# Altium footprint library Connectors.PcbLib: 18 footprints (part 1 of 2)
Each footprint in its own frame and in the unit in brackets; x right, y up, seen from the top. Pads: shape width x height; smd on the part's side, far side on the other; paste and mask are expansions set on the pad; w line width, h text height; cw(c..) or ccw(c..) is an arc to the next point about the centre after c.
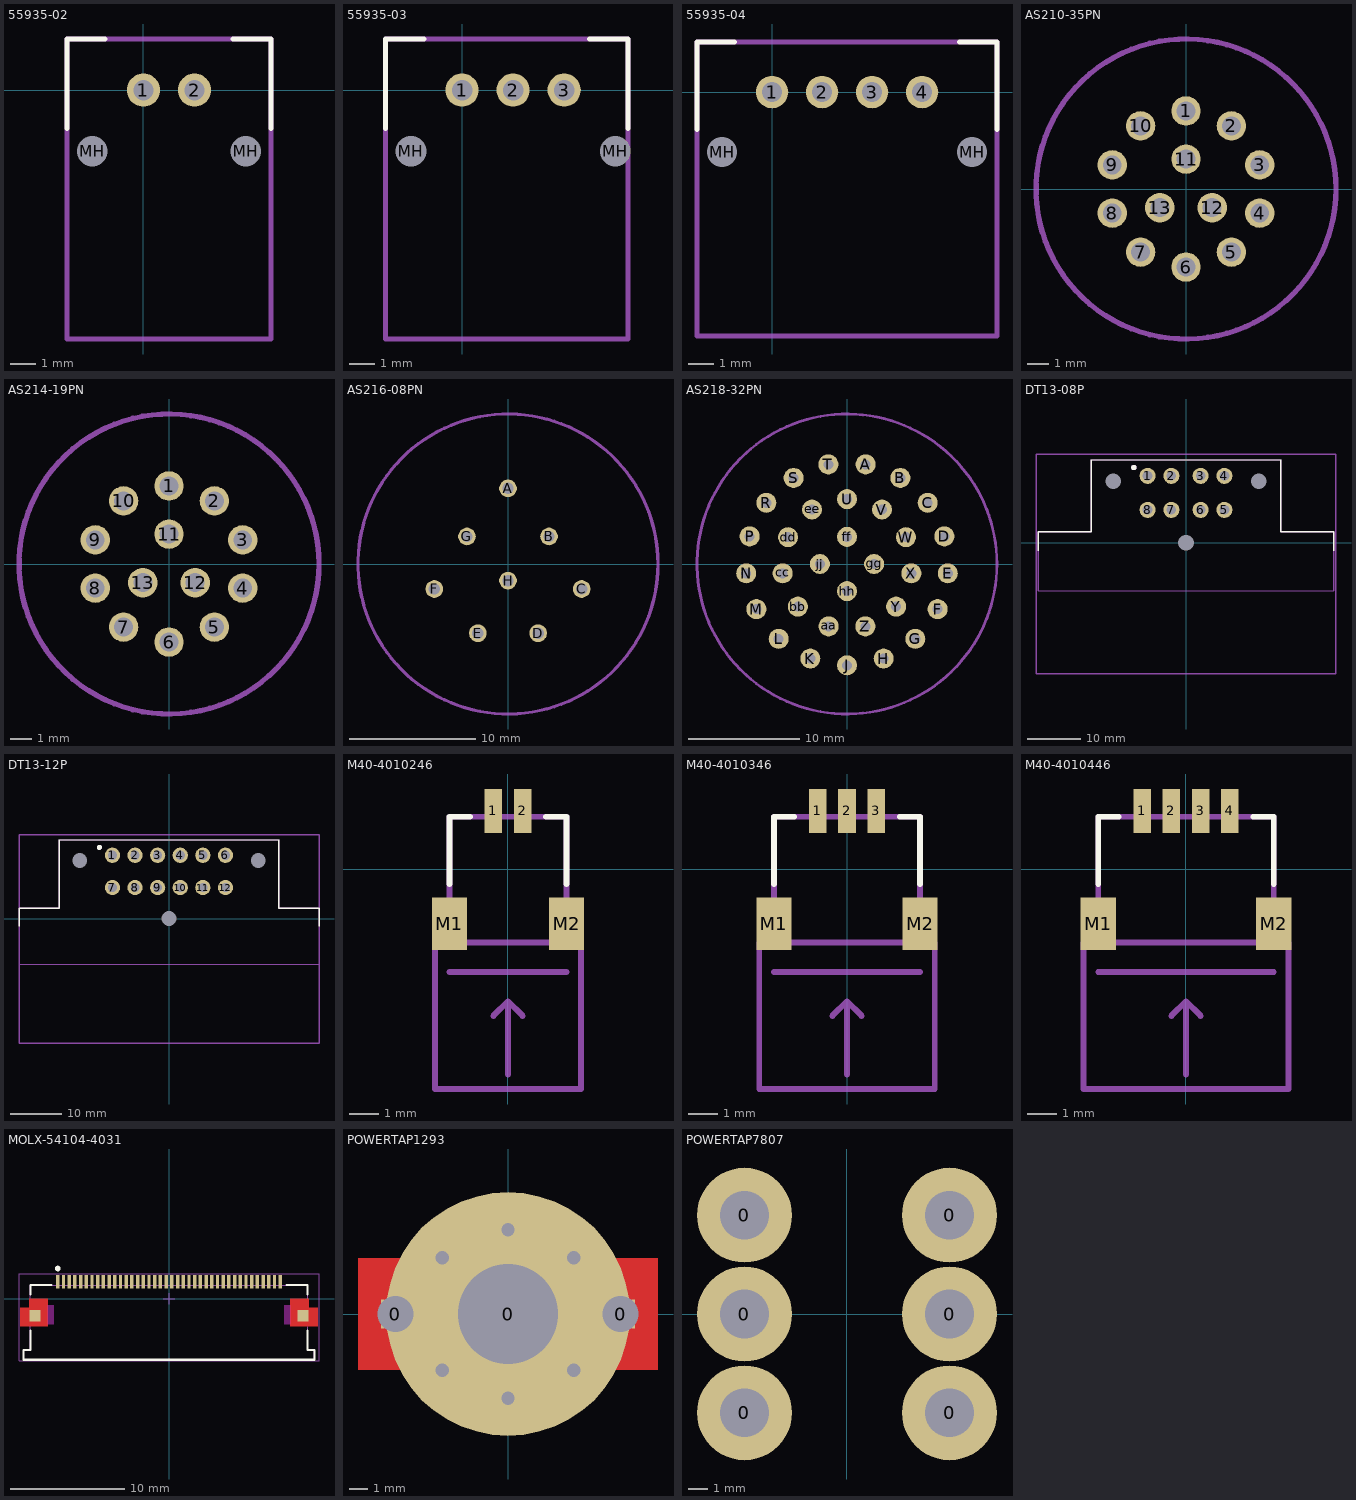
[diagram p0: the footprints below, top view; thin cyan lines are the x and y axes]

## 55935-02 [mm] "Molex MicroClasp™ 55935 2-pin"
height 6.7
pads (4):
  round 1.3 hole 0.8: 1(0,0) 2(2,0)
  round 1 hole 1.2 unplated: MH(-2,-2.4) MH(4,-2.4)
Top Overlay:
  lines w0.2: -3,-1.5 -3,2 -1.5,2 ; 3.5,2 5,2 5,-1.5
Mechanical 13:
  lines w0.2: 5,2 5,-9.75 -3,-9.75 -3,2 5,2 ; 5,2 5,2
3D body "559350210.stp": height 6.7, standoff -3.2, extent -3,-9.75 5,2

## 55935-03 [mm] "Molex MicroClasp™ 55935 3-pin"
height 6.7
pads (5):
  round 1.3 hole 0.8: 1(0,0) 2(2,0) 3(4,0)
  round 1 hole 1.2 unplated: MH(-2,-2.4) MH(6,-2.4)
Top Overlay:
  lines w0.2: -3,-1.5 -3,2 -1.5,2 ; 5,2 6.5,2 6.5,-1.5
Mechanical 13:
  lines w0.2: -3,-9.75 6.5,-9.75 6.5,2 -3,2 -3,-9.75
3D body "559350310.stp": height 6.7, standoff -3.2, extent -3,-9.75 7,2

## 55935-04 [mm] "Molex MicroClasp™ 55935 4-pin"
height 6.7
pads (6):
  round 1.3 hole 0.8: 1(0,0) 2(2,0) 3(4,0) 4(6,0)
  round 1 hole 1.2 unplated: MH(-2,-2.4) MH(8,-2.4)
Top Overlay:
  lines w0.2: -3,-1.5 -3,2 -1.5,2 ; 7.5,2 9,2 9,-1.5
Mechanical 13:
  lines w0.2: -3,-9.75 9,-9.75 9,2 -3,2 -3,-9.75
3D body "559350410.stp": height 6.7, standoff -3.2, extent -3,-9.75 9,2

## 541044031 [mm]
height 2

## AS210-35PN [mm]
pads (13):
  round 1.4 hole 0.9: 1(0,3.708) 2(2.159,2.997) 3(3.505,1.143) 4(3.505,-1.143) 5(2.159,-2.997) 7(-2.159,-2.997) 8(-3.505,-1.143) 9(-3.505,1.143) 10(-2.159,2.997) 11(0,1.422) 12(1.245,-0.889) 13(-1.245,-0.889)
  round 1.4 hole 0.9 paste+0: 6(0,-3.708)
Mechanical 13:
  circle w0.254: c0,0 r7.13
3D body "AS210-35PN.STEP": height 31.19, standoff -2.5, extent -12.604,-12.704 12.604,12.5

## AS214-19PN [mm]
pads (13):
  round 1.4 hole 0.9: 1(0,3.708) 2(2.159,2.997) 3(3.505,1.143) 4(3.505,-1.143) 5(2.159,-2.997) 7(-2.159,-2.997) 8(-3.505,-1.143) 9(-3.505,1.143) 10(-2.159,2.997) 11(0,1.422) 12(1.245,-0.889) 13(-1.245,-0.889)
  round 1.4 hole 0.9 paste+0: 6(0,-3.708)
Mechanical 13:
  circle w0.254: c0,0 r7.13

## AS216-08PN [mm]
pads (8):
  round 1.4 hole 0.9: A(0,5.994) B(3.251,2.184) C(5.842,-1.981) D(2.388,-5.486) E(-2.388,-5.486) F(-5.842,-1.981) G(-3.251,2.184) H(0,-1.321)
Mechanical 13:
  circle w0.254: c0,0 r11.89

## AS218-32PN [mm]
pads (32):
  round 1.8 hole 0.9: A(1.676,8.966) aa(-1.651,-5.613) B(4.801,7.747) bb(-4.42,-3.835) C(7.264,5.512) cc(-5.791,-0.838) D(8.763,2.489) dd(-5.309,2.413) E(9.068,-0.838) ee(-3.15,4.902) F(8.153,-4.064) ff(0,2.438) G(6.147,-6.731) gg(2.438,0) H(3.302,-8.509) hh(0,-2.438) J(0,-9.119) jj(-2.438,0) K(-3.302,-8.509) L(-6.147,-6.731) M(-8.153,-4.064) N(-9.068,-0.838) P(-8.763,2.489) R(-7.264,5.512) S(-4.801,7.747) T(-1.676,8.966) U(0,5.842) V(3.15,4.902) W(5.309,2.413) X(5.791,-0.838) Y(4.42,-3.835) Z(1.651,-5.613)
Mechanical 13:
  circle w0.254: c0,0 r13.5
3D body "AS218-35PN.STEP": height 31.14, standoff -2.55, extent -18.943,-19.386 18.943,18.5

## DT13-08P [mm]
pads (11):
  round 3 hole 1.8: 1(-7.175,12.45) 2(-2.73,12.45) 3(2.73,12.45) 4(7.175,12.45) 5(7.175,6.1) 6(2.73,6.1) 7(-2.73,6.1) 8(-7.175,6.1)
  round 0 hole 2.9 unplated paste+0: M1(0,0) M2(-13.59,11.43) M3(13.59,11.43)
Top Overlay:
  circle w0.5: c-9.75,14 r0.25
  lines w0.2: -17.655,15.49 17.655,15.49
  lines w0.254: -27.56,-1.5 -27.56,2 -17.655,2 -17.655,15.49 ; 17.655,15.49 17.655,2 27.56,2 27.56,-1.5
Mechanical 13:
  circle w0.5: c-9.75,14 r0.25
  lines w0.2: -27.56,-9.02 27.56,-9.02 ; -17.655,15.49 17.655,15.49
  lines w0.254: -27.56,-9.02 -27.56,2 -17.655,2 -17.655,15.49 ; 17.655,15.49 17.655,2 27.56,2 27.56,-9.02
Mechanical 15:
  lines w0.1: -0.5,0 0.5,0 ; 0,-0.5 0,0.5
  lines w0.254: -28,-24.51 -28,16.49 28,16.49 28,-24.51 -28,-24.51
Mechanical 29:
  circle w0.5: c-9.75,14 r0.25
  lines w0.2: -27.56,-9.02 27.56,-9.02 ; -17.655,15.49 17.655,15.49
  lines w0.254: -27.56,-9.02 -27.56,2 -17.655,2 -17.655,15.49 ; 17.655,15.49 17.655,2 27.56,2 27.56,-9.02
  text ".Designator" at -2,-0.5 h1.52
3D body "DT13-08PA.STEP": height 35.63, standoff -2.96, extent -27.418,-23.743 27.7,15.5

## DT13-12P [mm]
pads (15):
  round 3 hole 1.8: 1(-11.124,12.446) 2(-6.679,12.446) 3(-2.234,12.446) 4(2.211,12.446) 5(6.656,12.446) 6(11.101,12.446) 7(-11.124,6.096) 8(-6.679,6.096) 9(-2.234,6.096) 10(2.211,6.096) 11(6.656,6.096) 12(11.101,6.096)
  round 0 hole 2.9 unplated paste+0: M1(0,0) M2(-17.539,11.43) M3(17.539,11.43)
Top Overlay:
  circle w0.5: c-13.699,13.996 r0.25
  lines w0.2: -21.604,15.486 21.581,15.486
  lines w0.254: -29.5,-1.5 -29.5,1.996 -21.604,1.996 -21.604,15.486 ; 21.581,15.486 21.581,1.996 29.5,1.996 29.5,-1.5
Mechanical 13:
  circle w0.5: c-13.699,13.996 r0.25
  lines w0.2: -29.5,-9.024 29.5,-9.024 ; -21.604,15.486 21.581,15.486
  lines w0.254: -29.5,-9.024 -29.5,1.996 -21.604,1.996 -21.604,15.486 ; 21.581,15.486 21.581,1.996 29.5,1.996 29.5,-9.024
Mechanical 15:
  lines w0.1: -0.5,0 0.5,0 ; 0,-0.5 0,0.5
  lines w0.254: -29.5,-24.514 29.5,-24.514 29.5,16.486 -29.5,16.486 -29.5,-24.514
Mechanical 29:
  circle w0.5: c-13.699,13.996 r0.25
  lines w0.2: -29.5,-9.024 29.5,-9.024 ; -21.604,15.486 21.581,15.486
  lines w0.254: -29.5,-9.024 -29.5,1.996 -21.604,1.996 -21.604,15.486 ; 21.581,15.486 21.581,1.996 29.5,1.996 29.5,-9.024
  text ".Designator" at -2,-0.5 h1.52
3D body "DT13-12P.stp": height 35.63, standoff -2.96, extent -29.604,-23.997 29.604,15.5

## M40-4010246 [mm]
height 2.9
pads (4):
  rect 0.6x1.5 smd: 1(-0.5,2) 2(0.5,2)
  rect 1.2x1.8 smd: M1(-2,-1.85) M2(2,-1.85)
Top Overlay:
  lines w0.2: -2,-0.5 -2,1.8 -1.3,1.8 ; 1.3,1.8 2,1.8 2,-0.5
Mechanical 13:
  lines w0.2: -2.5,-2.5 -2.5,-7.5 2.5,-7.5 2.5,-2.5 ; -2,-3.5 2,-3.5 ; -0.5,-5 0,-4.5 ; 0,-7 0,-4.5 ; 0.5,-5 0,-4.5 ; -2,-2.5 2,-2.5 2,1.8 -2,1.8 -2,-2.5
3D body "m40-4010246_asm.stp": height 2.93, standoff 0.03, extent -2.15,-2.75 2.15,2.25

## M40-4010346 [mm]
height 2.9
pads (5):
  rect 0.6x1.5 smd: 1(-1,2) 2(0,2) 3(1,2)
  rect 1.2x1.8 smd: M1(-2.5,-1.85) M2(2.5,-1.85)
Top Overlay:
  lines w0.2: -2.5,-0.5 -2.5,1.8 -1.8,1.8 ; 1.8,1.8 2.5,1.8 2.5,-0.5
Mechanical 13:
  lines w0.2: -3,-2.5 -3,-7.5 3,-7.5 3,-2.5 ; -2.5,-3.5 2.5,-3.5 ; -0.5,-5 0,-4.5 ; 0,-7 0,-4.5 ; 0.5,-5 0,-4.5 ; -2.5,-2.5 2.5,-2.5 2.5,1.8 -2.5,1.8 -2.5,-2.5
3D body "m40-4010346_asm.stp": height 2.93, standoff 0.03, extent -2.65,-2.75 2.65,2.25

## M40-4010446 [mm]
height 2.9
pads (6):
  rect 0.6x1.5 smd: 1(-1.5,2) 2(-0.5,2) 3(0.5,2) 4(1.5,2)
  rect 1.2x1.8 smd: M1(-3,-1.85) M2(3,-1.85)
Top Overlay:
  lines w0.2: -3,-0.5 -3,1.8 -2.3,1.8 ; 2.3,1.8 3,1.8 3,-0.5
Mechanical 13:
  lines w0.2: -3.5,-2.5 -3.5,-7.5 3.5,-7.5 3.5,-2.5 ; -3,-3.5 3,-3.5 ; -0.5,-5 0,-4.5 ; 0,-7 0,-4.5 ; 0.5,-5 0,-4.5 ; -3,-2.5 3,-2.5 3,1.8 -3,1.8 -3,-2.5
3D body "m40-4010446_asm.stp": height 2.93, standoff 0.03, extent -3.15,-2.75 3.15,2.25

## MOLX-54104-4031 [mm] "FPC Connector, 40-Leads, Right Angle, Pitch 0.5 mm, Mated Height 2.0 mm, SMT"
height 2.062
pads (42):
  rect 0.3x1.2 smd: 1(-9.75,1.5) 2(-9.25,1.5) 3(-8.75,1.5) 4(-8.25,1.5) 5(-7.75,1.5) 6(-7.25,1.5) 7(-6.75,1.5) 8(-6.25,1.5) 9(-5.75,1.5) 10(-5.25,1.5) 11(-4.75,1.5) 12(-4.25,1.5) 13(-3.75,1.5) 14(-3.25,1.5) 15(-2.75,1.5) 16(-2.25,1.5) 17(-1.75,1.5) 18(-1.25,1.5) 19(-0.75,1.5) 20(-0.25,1.5) 21(0.25,1.5) 22(0.75,1.5) 23(1.25,1.5) 24(1.75,1.5) 25(2.25,1.5) 26(2.75,1.5) 27(3.25,1.5) 28(3.75,1.5) 29(4.25,1.5) 30(4.75,1.5) 31(5.25,1.5) 32(5.75,1.5) 33(6.25,1.5) 34(6.75,1.5) 35(7.25,1.5) 36(7.75,1.5) 37(8.25,1.5) 38(8.75,1.5) 39(9.25,1.5) 40(9.75,1.5)
  rect 1x1 smd: MP1(-11.75,-1.5) MP2(11.75,-1.5)
Top Layer:
  region: -10.65,0 -12.25,0 -12.25,-0.8 -13.05,-0.8 -13.05,-2.4 -10.65,-2.4
  region: 10.65,0 12.25,0 12.25,-0.8 13.05,-0.8 13.05,-2.4 10.65,-2.4
Top Overlay:
  circle w0.25: c-9.75,2.65 r0.125
  lines w0.2: -12.75,-5.35 12.75,-5.35 12.75,-4.5 12.15,-4.5 12.15,-2.8 ; -12.75,-5.35 -12.75,-4.5 -12.15,-4.5 -12.15,-2.8 ; -12.15,0.4 -12.15,1.2 -10.3,1.2 ; 10.3,1.2 12.15,1.2 12.15,0.4
Keep-Out Layer:
  region: -10.1,-0.55 -10.65,-0.55 -10.65,-2.25 -10.1,-2.25
  region: 10.65,-0.55 10.1,-0.55 10.1,-2.25 10.65,-2.25
Mechanical 13:
  lines w0.1: -12.75,-5.35 12.75,-5.35 12.75,-4.5 12.15,-4.5 12.15,1.2 -12.15,1.2 -12.15,-4.5 -12.75,-4.5 -12.75,-5.35
Mechanical 15:
  lines w0.05: -13.15,-5.45 -13.15,2.2 13.15,2.2 13.15,-5.45 -13.15,-5.45
  lines w0.1: -0.5,0 0.5,0 ; 0,-0.5 0,0.5
3D body "541044031.stp": height 2.06, standoff 0.01, extent -12.75,-5.35 12.75,1.8

## POWERTAP1293 [mm]
pads (3):
  rect 1.524x1.524 hole 1.91 square: 0(-6,0) 0(6,0)
  round 13 hole 5.35: 0(0,0)
via 0,4.5 diameter 2 hole 0.711
via -3.5,3 diameter 2 hole 0.711
via 3.5,3 diameter 2 hole 0.711
via 3.5,-3 diameter 2 hole 0.711
via -3.5,-3 diameter 2 hole 0.711
via 0,-4.5 diameter 2 hole 0.711
Top Layer:
  rectangle: -8,-3 8,3
Bottom Layer:
  rectangle: -8,-3 8,3
Top Solder:
  rectangle: -7.9,-2.9 7.9,2.9
Bottom Solder:
  rectangle: -7.8,-2.8 7.8,2.8
3D body "PowerTap1293.STEP": height 3.96, standoff -4.75, extent -6.74,-5.55 6.74,7.92

## POWERTAP7807 [mm]
pads (6):
  round 5 hole 2.57: 0(-5.4,-5.2) 0(-5.4,0) 0(-5.4,5.21) 0(5.4,-5.2) 0(5.4,0) 0(5.4,5.21)
3D body "PowerTap7807.STEP": height 13.14, standoff -4.06, extent -6.477,-5.97 6.479,5.97